# Altium footprint library CUI_UJ20-C-H-C-MSMT-TR.PcbLib: 1 footprints
Each footprint in its own frame and in the unit in brackets; x right, y up, seen from the top. Pads: shape width x height; smd on the part's side, far side on the other; paste and mask are expansions set on the pad; w line width, h text height; cw(c..) or ccw(c..) is an arc to the next point about the centre after c.
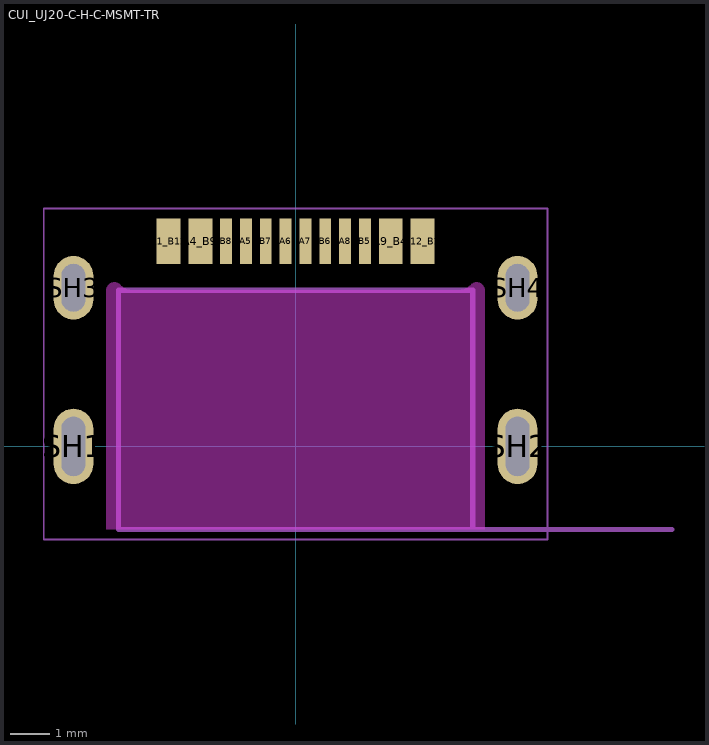
[diagram p0: the footprint, top view; thin cyan lines are the x and y axes]

## CUI_UJ20-C-H-C-MSMT-TR [mm]
height 3.36
pads (16):
  rect 0.6x1.15 smd mask+0.05: A1_B12(-3.2,5.175) A4_B9(-2.4,5.175) A9_B4(2.4,5.175) A12_B1(3.2,5.175)
  rect 0.3x1.15 smd mask+0.05: A5(-1.25,5.175) A6(-0.25,5.175) A7(0.25,5.175) A8(1.25,5.175) B5(1.75,5.175) B6(0.75,5.175) B7(-0.75,5.175) B8(-1.75,5.175)
  oval 1x1.9 hole 0.6 slot 1.5 at 90 deg: SH1(-5.6,0) SH2(5.6,0)
  oval 1x1.6 hole 0.6 slot 1.2 at 90 deg: SH3(-5.6,4) SH4(5.6,4)
Keep-Out Layer:
  board cut-out: -4.769,3.953 -4.77,3.937 -4.77,-2.09 4.77,-2.09 4.77,3.937 4.769,3.953 4.768,3.969 4.764,3.984 4.76,3.999 4.755,4.014 4.748,4.028 4.74,4.042 4.731,4.055 4.721,4.068 4.711,4.079 4.699,4.09 4.686,4.1 4.673,4.108 4.659,4.116 4.645,4.122 4.63,4.128 4.615,4.132 4.599,4.135 4.583,4.137 4.568,4.137 4.552,4.136 4.536,4.134 4.521,4.131 4.506,4.126 4.491,4.121 4.477,4.114 4.463,4.106 4.45,4.097 4.438,4.087 4.426,4.075 4.416,4.066 4.399,4.05 4.38,4.034 4.361,4.02 4.341,4.006 4.32,3.994 4.299,3.983 4.277,3.973 4.254,3.964 4.231,3.956 4.208,3.95 4.184,3.945 4.161,3.941 4.137,3.938 4.113,3.937 4.1,3.937 -4.1,3.937 -4.113,3.937 -4.137,3.938 -4.161,3.941 -4.184,3.945 -4.208,3.95 -4.231,3.956 -4.254,3.964 -4.277,3.973 -4.299,3.983 -4.32,3.994 -4.341,4.006 -4.361,4.02 -4.38,4.034 -4.39,4.042 -4.408,4.058 -4.426,4.075 -4.438,4.087 -4.45,4.097 -4.463,4.106 -4.477,4.114 -4.491,4.121 -4.506,4.126 -4.521,4.131 -4.536,4.134 -4.552,4.136 -4.568,4.137 -4.583,4.137 -4.599,4.135 -4.615,4.132 -4.63,4.128 -4.645,4.122 -4.659,4.116 -4.673,4.108 -4.686,4.1 -4.699,4.09 -4.711,4.079 -4.721,4.068 -4.731,4.055 -4.74,4.042 -4.748,4.028 -4.755,4.014 -4.76,3.999 -4.764,3.984 -4.768,3.969
Mechanical 13:
  lines w0.127: 9.5,-2.1 4.47,-2.1 ; 4.47,-2.1 -4.47,-2.1 -4.47,3.937 4.47,3.937 4.47,-2.1
  text "PCB EDGE" at 6.5,-1.75 h1.02
Mechanical 15:
  lines w0.05: -6.35,-2.35 -6.35,6 6.35,6 6.35,-2.35 -6.35,-2.35
3D body "UJ20-C-H-C-MSMT-TR.step": height 2.58, standoff -0.68, extent -5.75,-2.032 5.75,5.07